# EAGLE library part TPS55340 (library DCDC)
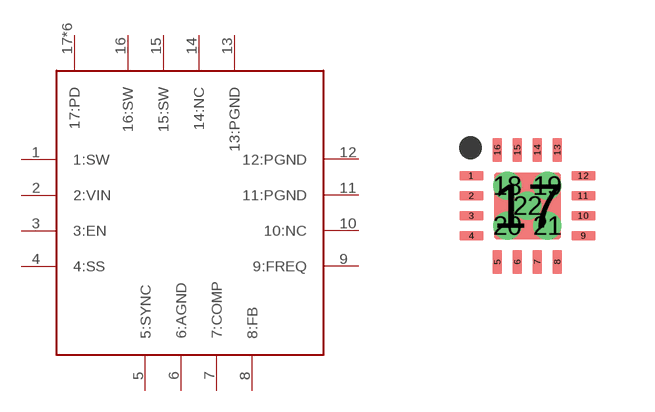
[diagram p0: symbol with the pads of WQFN; footprint WQFN]

Designator prefix -

## TPS55340  [WQFN]
1  1:SW
2  2:VIN
3  3:EN
4  4:SS
5  5:SYNC
6  6:AGND
7  7:COMP
8  8:FB
9  9:FREQ
10  10:NC
11  11:PGND
12  12:PGND
13  13:PGND
14  14:NC
15  15:SW
16  16:SW
17  17:PD
18  17:PD
19  17:PD
20  17:PD
21  17:PD
22  17:PD

## Footprint WQFN (pad centres in mm)
smd 0.6 x 0.24: 1 -1.4,0.75; 2 -1.4,0.25; 3 -1.4,-0.25; 4 -1.4,-0.75; 9 1.4,-0.75; 10 1.4,-0.25; 11 1.4,0.25; 12 1.4,0.75
smd 0.24 x 0.6: 5 -0.75,-1.4; 6 -0.25,-1.4; 7 0.25,-1.4; 8 0.75,-1.4; 13 0.75,1.4; 14 0.25,1.4; 15 -0.25,1.4; 16 -0.75,1.4
smd 1.68 x 1.68: 17 0,0
drill 0.2 pad 0.305: 18 -0.5,0.5; 19 0.5,0.5; 20 -0.5,-0.5; 21 0.5,-0.5; 22 0,0